# Altium footprint library HARD.PcbLib: 6 footprints
Each footprint in its own frame and in the unit in brackets; x right, y up, seen from the top. Pads: shape width x height; smd on the part's side, far side on the other; paste and mask are expansions set on the pad; w line width, h text height; cw(c..) or ccw(c..) is an arc to the next point about the centre after c.
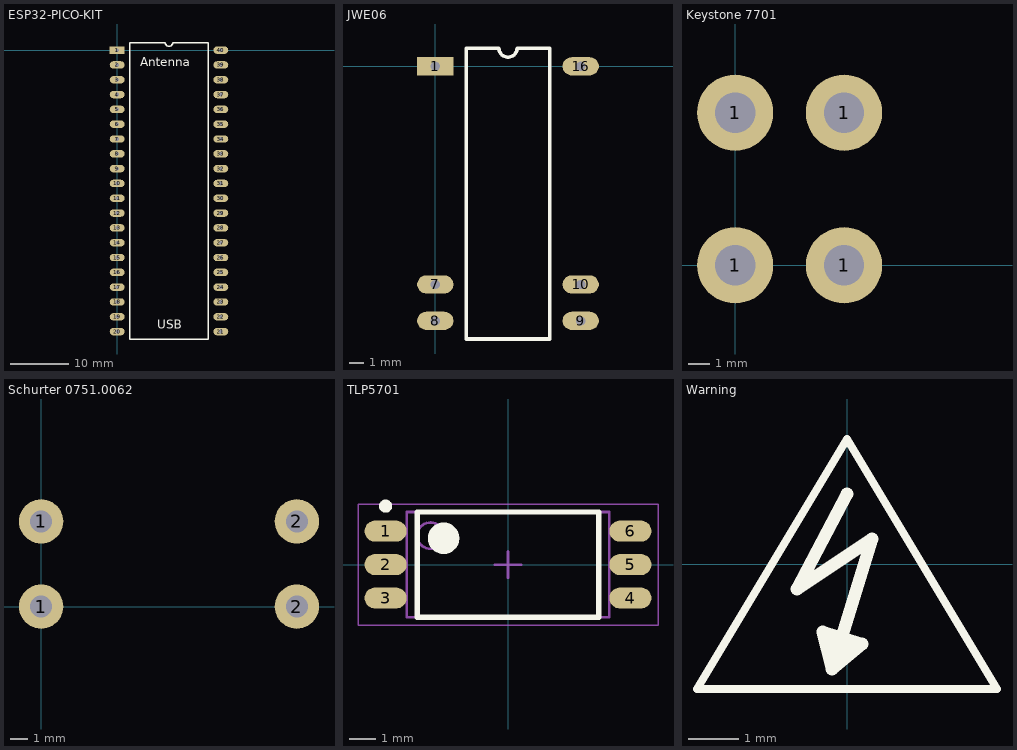
[diagram p0: the footprints below, top view; thin cyan lines are the x and y axes]

## ESP32-PICO-KIT [mil]
pads (40):
  rect 100x50 hole 25: 1(0,0)
  oval 100x50 hole 25: 2(0,-100) 3(0,-200) 4(0,-300) 5(0,-400) 6(0,-500) 7(0,-600) 8(0,-700) 9(0,-800) 10(0,-900) 11(0,-1000) 12(0,-1100) 13(0,-1200) 14(0,-1300) 15(0,-1400) 16(0,-1500) 17(0,-1600) 18(0,-1700) 19(0,-1800) 20(0,-1900) 21(700,-1900) 22(700,-1800) 23(700,-1700) 24(700,-1600) 25(700,-1500) 26(700,-1400) 27(700,-1300) 28(700,-1200) 29(700,-1100) 30(700,-1000) 31(700,-900) 32(700,-800) 33(700,-700) 34(700,-600) 35(700,-500) 36(700,-400) 37(700,-300) 38(700,-200) 39(700,-100) 40(700,0)
Top Overlay:
  lines w10: 85,-1950 615,-1950 615,50 375,50 cw(c350,50) 325,50 85,50 85,-1950
  text "Antenna" at 155.06,-110 h60
  text "USB" at 270.03,-1880 h60

## JWE06 [mil]
pads (6):
  rect 100x50 hole 25: 1(0,0)
  oval 100x50 hole 25: 7(0,-600) 8(0,-700) 9(400,-700) 10(400,-600) 16(400,0)
Top Overlay:
  lines w10: 85,-750 85,50 175,50 ccw(c200,50) 225,50 315,50 315,-750 85,-750
3D body: height 314.96, standoff 0, extent 452.76,-244.09 452.76,-98.43
3D body: height 314.96, standoff 78.74, extent -76.18,-818.9 476.18,118.11

## Keystone 7701 [mm] "Screw terminal"
height 6.2
pads (4):
  round 3.5 hole 1.85: 1(0,0) 1(0,7.01) 1(5,0) 1(5,7.01)
Top Overlay:
3D body "keystone-PN7701.STEP": height 8.08, standoff -5, extent -1.445,-0.305 6.439,7.569

## Schurter 0751.0062 [mm]
pads (4):
  round 2.6 hole 1.3: 1(0,0) 1(0,5) 2(15,0) 2(15,5)
3D body "Fuse clip.STEP": height 13, standoff -4, extent -3.5,-0.5 2.9,5.5
3D body "Fuse clip.STEP": height 13, standoff -4, extent 12.1,-0.5 18.5,5.5

## TLP5701 [mm] "Toshiba SO6L: SOIC, 6-Leads, Body 3.84x7.50mm, Pitch 1.27mm, IPC Medium Density"
height 2.2
pads (6):
  oval 1.6x0.8 smd: 1(-4.65,1.27) 2(-4.65,0) 3(-4.65,-1.27) 4(4.65,-1.27) 5(4.65,0) 6(4.65,1.27)
Top Overlay:
  circle w0.6: c-2.45,1 r0.3
  circle w0.25: c-4.65,2.22 r0.125
  lines w0.2: -3.45,-2 3.45,-2 3.45,2 -3.45,2 -3.45,-2
Mechanical 13:
  circle w0.1: c-2.95,1.1 r0.5
  lines w0.1: -3.85,-2 3.85,-2 3.85,2 -3.85,2 -3.85,-2
Mechanical 15:
  lines w0.05: -5.7,-2.3 5.7,-2.3 5.7,2.3 -5.7,2.3 -5.7,-2.3
  lines w0.1: -0.5,0 0.5,0 ; 0,-0.5 0,0.5
3D body "TLP5701.step": height 2.2, standoff 0, extent -5,-2 5,2

## Warning [mil]
Top Overlay:
  rectangle: -15.49,-72.83 4.06,-55.84
  lines w6: -118.11,-98.43 118.11,-98.43 0,98.43 -118.11,-98.43
  lines w10: 0,55.12 -39.37,-19.68 19.68,19.68 -11.81,-82.68 ; -11.81,-82.68 -19.17,-53.46 -3.68,-58.23 11.81,-62.99 -11.81,-82.68